# Altium schematic symbol library NewLibrary.SchLib: 79 symbols
Pins are listed as number, name and electrical type; pins without a type are passive.

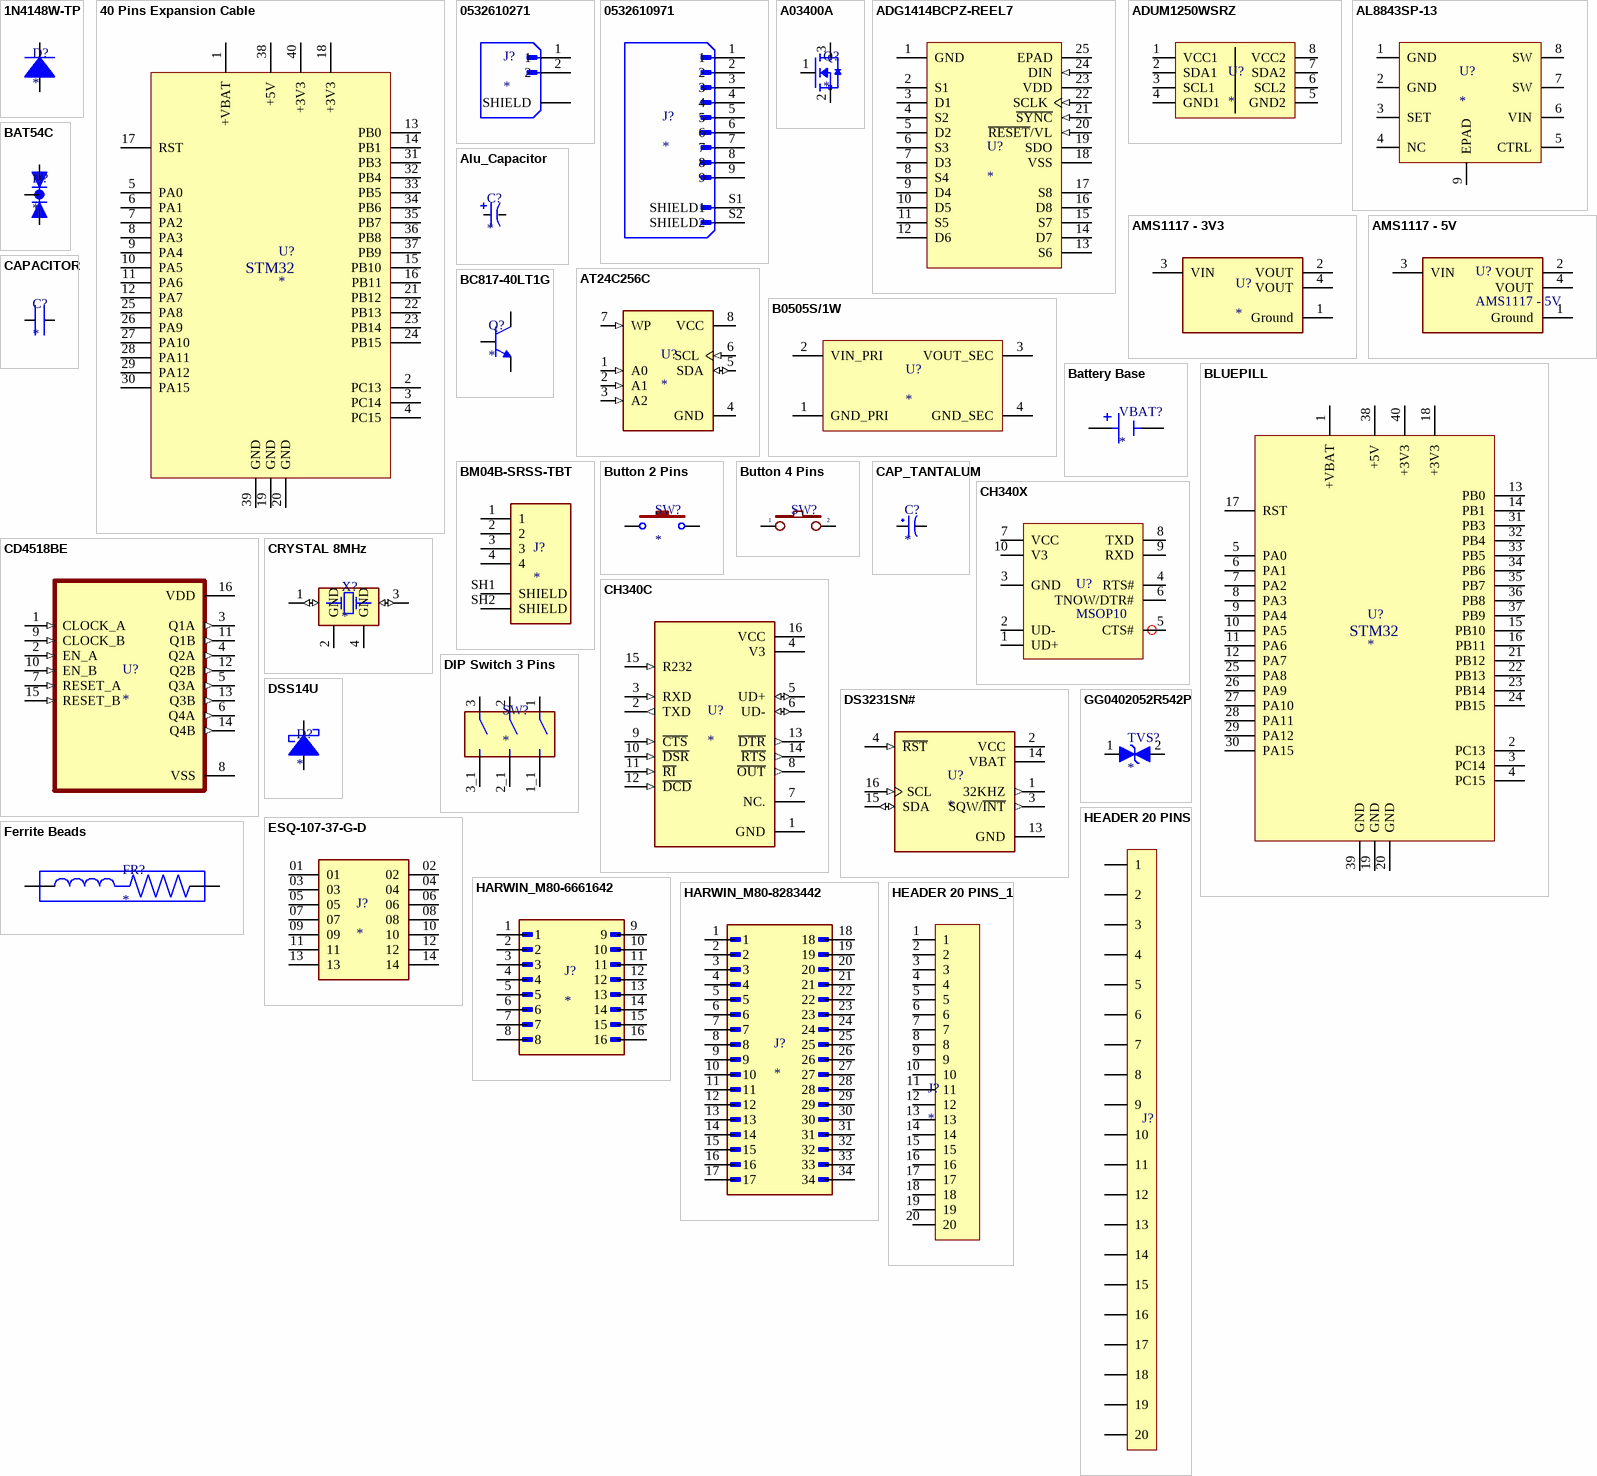
[diagram p0: symbols 1N4148W-TP to HEADER 20 PINS_1]

## 1N4148W-TP
designator D?
Diode 100 V 150mA Surface Mount SOD-123
footprint 1N4148W-TP (DIODE STANDARD 100V 150MA SOD123)
pins: 1 ANODE, 2 CATHODE

## 40 Pins Expansion Cable
designator U?
40 Pins Expansion Cable for Raspberry Pi
pins: 1 +VBAT, 2 PC13, 3 PC14, 4 PC15, 5 PA0, 6 PA1, 7 PA2, 8 PA3, 9 PA4, 10 PA5, 11 PA6, 12 PA7, 13 PB0, 14 PB1, 15 PB10, 16 PB11, 17 RST, 18 +3V3, 19 GND, 20 GND, 21 PB12, 22 PB13, 23 PB14, 24 PB15, 25 PA8, 26 PA9, 27 PA10, 28 PA11, 29 PA12, 30 PA15, 31 PB3, 32 PB4, 33 PB5, 34 PB6, 35 PB7, 36 PB8, 37 PB9, 38 +5V, 39 GND, 40 +3V3
text: STM32

## 0532610271
designator J?
CONN HEADER SMD R/A 2POS 1.25MM; Supplier 1: Arrow Electronics; Supplier Part Number 1: 53261-0271
footprint 0532610271 (CONN HEADER SMD R/A 2POS 1.25MM)
pins: 1, 2, S1 SHIELD, S2 SHIELD

## 0532610971
designator J?
Connector Header Surface Mount, Right Angle 9 position 0.049" (1.25mm); Supplier 1: Mouser; Supplier Part Number 1: 538-53261-0971
footprint 0532610971 (Connector Header Surface Mount, Right Angle 9 position 0.049" (1.25mm))
pins: 1, 2, 3, 4, 5, 6, 7, 8, 9, S1 SHIELD1, S2 SHIELD2

## A03400A
designator Q?
N-Channel 30 V 5.7A (Ta) 1.4W (Ta) Surface Mount SOT-23-3; Supplier 1: Arrow Electronics; Supplier Part Number 1: AO3400A
footprint AO3400A (N-Channel 30 V 5.7A (Ta) 1.4W (Ta) Surface Mount SOT-23-3)
pins: 1 G, 2 S, 3 D

## ADG1414BCPZ-REEL7
designator U?
8 Circuit IC Switch 1:1 11.5Ohm 24-LFCSP (4x4); Supplier 1: Mouser; Supplier Part Number 1: 584-ADG1414BCPZ-R7
footprint ADG1414BCPZ-REEL7
pins: 1 GND "Ground (0 V) Reference.", 2 S1 "Source Terminal 1. This pin can be an input or an output.", 3 D1 "Drain Terminal 1. This pin can be an input or an output.", 4 S2 "Source Terminal 1. This pin can be an input or an output.", 5 D2 "Drain Terminal 1. This pin can be an input or an output.", 6 S3 "Source Terminal 1. This pin can be an input or an output.", 7 D3 "Drain Terminal 1. This pin can be an input or an output.", 8 S4 "Source Terminal 1. This pin can be an input or an output.", 9 D4 "Drain Terminal 1. This pin can be an input or an output.", 10 D5 "Drain Terminal 1. This pin can be an input or an output.", 11 S5 "Source Terminal 1. This pin can be an input or an output.", 12 D6 "Drain Terminal 1. This pin can be an input or an output.", 13 S6 "Source Terminal 1. This pin can be an input or an output.", 14 D7 "Drain Terminal 1. This pin can be an input or an output.", 15 S7 "Source Terminal 1. This pin can be an input or an output.", 16 D8 "Drain Terminal 1. This pin can be an input or an output.", 17 S8 "Source Terminal 1. This pin can be an input or an output.", 18 VSS "Most Negative Power Supply Potential. In single-supply applications, it can be connected to ground.", 19 SDO (oc) "Serial Data Output. This pin can be used for daisy-chaining a number of these devices together or for reading back the data in the shift register for diagnostic purposes. The serial data is transferred on the rising edge of (See Datasheet)", 20 ~{RESET}/VL (in) "RESET/Logic Power Supply Input (VL). When this pin is low (<0.8 V), this pin acts as RESET, all switches are open, and appropriate registers are cleared to 0. Otherwise, it is the logic power supply input that operates from (See Datasheet)", 21 ~{SYNC} (in) "Active Low Control Input. This is the frame synchronization signal for the input data. When SYNC goes low, it powers on the SCLK and DIN buffers and enables the input shift register. Data is transferred in on the falling (See Datasheet)", 22 SCLK (in) "Serial Clock Input. Data is clocked into the input shift register on the falling edge of the serial clock input. Data can be transferred at rates of up to 50 MHz.", 23 VDD (power) "Most Positive Power Supply Potential.", 24 DIN (in) "Serial Data Input. This device has an 8-bit shift register. Data is clocked into the register on the falling edge of the serial clock input.", 25 EPAD "Exposed Pad. Exposed pad tied to the substrate, VSS."

## ADUM1250WSRZ
designator U?
I2C Digital Isolator 2500Vrms 2 Channel 1Mbps 25kV/µs CMTI 8-SOIC (0.154", 3.90mm Width); Supplier 1: Mouser; Supplier Part Number 1: 584-ADUM1250WSRZ
footprint ADUM1250WSRZ (I2C Digital Isolator 2500Vrms 2 Channel 1Mbps 25kV/µs CMTI 8-SOIC (0.154", 3.90mm Width))
pins: 1 VCC1, 2 SDA1, 3 SCL1, 4 GND1, 5 GND2, 6 SCL2, 7 SDA2, 8 VCC2

## AL8843SP-13
designator U?
LED Driver IC 1 Output DC DC Regulator Step-Down (Buck) Analog, PWM Dimming 3A 8-SO-EP; Supplier 1: Avnet; Supplier Part Number 1: AL8843SP-13
footprint AL8843SP-13 (IC LED DRIVER RGLTR PWM 3A 8SO)
pins: 1 GND, 2 GND, 3 SET, 4 NC, 5 CTRL, 6 VIN, 7 SW, 8 SW, 9 EPAD

## Alu_Capacitor
designator C?
footprint Alu_Cap_6.3_7.7 (6.3x7.7mm)
pins: 1, 2

## AMS1117 - 3V3
designator U?
Max input voltage 15V, output voltage 3.3V-1A, SMD package SOT-223
footprint FP-AMS1117-IPC_A
pins: 1 Ground (power), 2 VOUT, 3 VIN (power), 4 VOUT

## AMS1117 - 5V
designator U?
Max input voltage 15V, output voltag 5V-1A, SMD package SOT-223
footprint FP-AMS1117-IPC_A
pins: 1 Ground (power), 2 VOUT, 3 VIN (power), 4 VOUT

## AT24C256C
designator U?
EEPROM Memory IC 256Kb (32K x 8), I2C Protocol
footprint SOIC-8 (SMD)
pins: 1 A0 (in), 2 A1 (in), 3 A2 (in), 4 GND (power), 5 SDA (io), 6 SCL (in), 7 WP (in), 8 VCC (power)

## B0505S/1W
designator U?
Isolated - Converter
footprint B0505S/1W
pins: 1 GND_PRI, 2 VIN_PRI, 3 VOUT_SEC, 4 GND_SEC

## BAT54C
designator D?
230mW SMD Schottky Barrier Diode; Supplier 1: Avnet; Supplier Part Number 1: BAT54C
footprint BAT54C (Schottky Barrier Diode)
pins: 1 A1, 2 A2, 3 C

## Battery Base
designator VBAT?
Battery Base CR2032
footprint CR2032 - SMD
pins: N NEG, P POS

## BC817-40LT1G
designator Q?
Bipolar (BJT) Transistor NPN 45 V 500 mA 100MHz 300 mW Surface Mount SOT-23-3 (TO-236); Supplier 1: Arrow Electronics; Supplier Part Number 1: BC817-40LT1G
footprint BC817-40LT1GBC817-40LT1G (Bipolar (BJT) Transistor NPN 45 V 500 mA 100MHz 300 mW Surface Mount SOT-23-3 (TO-236) / Datasheet / Datasheet)
pins: 1 B, 2 E, 3 C

## BLUEPILL
designator U?
STM32F103C8T6
footprint BLUEPILL
pins: 1 +VBAT, 2 PC13, 3 PC14, 4 PC15, 5 PA0, 6 PA1, 7 PA2, 8 PA3, 9 PA4, 10 PA5, 11 PA6, 12 PA7, 13 PB0, 14 PB1, 15 PB10, 16 PB11, 17 RST, 18 +3V3, 19 GND, 20 GND, 21 PB12, 22 PB13, 23 PB14, 24 PB15, 25 PA8, 26 PA9, 27 PA10, 28 PA11, 29 PA12, 30 PA15, 31 PB3, 32 PB4, 33 PB5, 34 PB6, 35 PB7, 36 PB8, 37 PB9, 38 +5V, 39 GND, 40 +3V3
text: STM32

## BM04B-SRSS-TBT
designator J?
Connector Header Surface Mount 4 position 0.039" (1.00mm); Supplier 1: Arrow Electronics; Supplier Part Number 1: BM04B-SRSS-TBT(LF)(SN)
footprint BM04B-SRSS-TBT(LF)(SN)
pins: 1, 2, 3, 4, SH1 SHIELD, SH2 SHIELD

## Button 2 Pins
designator SW?
SMD Button; Supplier 1: Newark; Supplier Part Number 1: 35AH5160
footprint SMD SWITCH 2 PINS (SMD)
footprint SMD - 12x12mm - Height 9.5mm (SMD)
pins: 1, 2

## Button 4 Pins
designator SW?
DIP Button 4 Pins
footprint SW - 12mm x 12mm x 8mm (Black Switch)
pins: 1, 2

## CAP_TANTALUM
designator C?
TANTALUM SMD
footprint CAP_TANTALUM_1206
pins: 1, 2

## CAPACITOR
designator C?
CAPACITOR SMD - KEMET
footprint CAP - 0603 (Capacitor SMD - 1608 - KEMET)
footprint CAP - 0805 (Capacitor SMD - 2012 - KEMET)
footprint CAP - 1206 (Capacitor SMD - 3216 - KEMET)
footprint CAP - 1210 (Capacitor SMD - 3225 - KEMET)
pins: 1, 2

## CD4518BE
designator U?
CMOS Dual BCD Up-Counter; MF: Texas Instruments; MP: CD4518BE; SnapEDA_Link: https://www.snapeda.com/parts/CD4518BE/Texas+Instruments/view-part/?ref=snap; Package: PDIP-16 Texas Instruments; Value: *; Check_prices: https://www.snapeda.com/parts/CD4518BE/Texas+Instruments/view-part/?ref=eda
footprint DIP794W45P254L1969H508Q16
pins: 1 CLOCK_A (in), 2 EN_A (in), 3 Q1A (out), 4 Q2A (out), 5 Q3A (out), 6 Q4A (out), 7 RESET_A (in), 8 VSS (power), 9 CLOCK_B (in), 10 EN_B (in), 11 Q1B (out), 12 Q2B (out), 13 Q3B (out), 14 Q4B (out), 15 RESET_B (in), 16 VDD (power)

## CH340C
designator U?
USB to serial chip CH340
footprint SOIC127P600X180-16N
pins: 1 GND (power), 2 TXD (out), 3 RXD (in), 4 V3 (power), 5 UD+ (io), 6 UD- (io), 7 NC., 8 ~{OUT} (out), 9 ~{CTS} (in), 10 ~{DSR} (in), 11 ~{RI} (in), 12 ~{DCD} (in), 13 ~{DTR} (out), 14 ~{RTS} (out), 15 R232 (in), 16 VCC (power)

## CH340X
designator U?, comment MSOP10
CH340X - MSOP10
footprint CH340X (5.1x3.1mm, Package MSOP10)
pins: 1 UD+, 2 UD-, 3 GND, 4 RTS#, 5 CTS#, 6 TNOW/DTR#, 7 VCC, 8 TXD, 9 RXD, 10 V3

## CRYSTAL 8MHz
designator X?
SMD CRYSTAL; Supplier 1: Avnet; Supplier Part Number 1: ECS-80-8-33Q-ADS
footprint CRYSTAL 8MHz (SMD)
pins: 1 IN/OUT (io), 2 GND (power), 3 OUT/IN (io), 4 GND (power)

## DIP Switch 3 Pins
designator SW?
Switch DIP ON OFF SPST 3 Flush Slide 0.1A 20VDC Gull Wing 2000Cycles 2.54mm SMD T/R
footprint SMD - SW - 3Pins (Pitch - 2.54mm)
pins: 1, 1_1, 2, 2_1, 3, 3_1

## DS3231SN#
designator U?
Extremely Accurate I²C-Integrated RTC/TCXO/Crystal
footprint SOIC -16 (SMD)
pins: 1 32KHZ (out), 2 VCC (power), 3 SQW/~{INT} (out), 4 ~{RST} (in), 13 GND (power), 14 VBAT (power), 15 SDA (io), 16 SCL (in)

## DSS14U
designator D?
LED Driver IC 1 Output DC DC Regulator Step-Down (Buck) Analog, PWM Dimming 3A 8-SO-EP; Supplier 1: Digikey; Supplier Part Number 1: 1655-DSS14UCT-ND
footprint DSS14U (Diode Schottky 40 V 1A Surface Mount SOD-123FL)
pins: 1 ANODE, 2 CATHODE

## ESQ-107-37-G-D
designator J?
CONN SOCKET 14POS 0.1 GOLD PCB; Supplier 1: Avnet; Supplier Part Number 1: ESQ-107-37-G-D
footprint ESQ-107-37-G-D (CONN SOCKET 14POS 0.1 GOLD PCB)
pins: 01, 02, 03, 04, 05, 06, 07, 08, 09, 10, 11, 12, 13, 14

## Ferrite Beads
designator FR?
SMD
footprint FR-0805 (SMD)
pins: 1, 2

## GG0402052R542P
designator TVS?
TVS DIODE 5VWM 15.5VC 0402; Supplier 1: Digikey; Supplier Part Number 1: 478-10592-1-ND
footprint GG0402052R542P (TVS DIODE 5VWM 15.5VC 0402)
pins: 1 IO_1, 2 IO_2

## HARWIN_M80-6661642
designator J?
Connector Header Surface Mount, Right Angle 16 position 0.079" (2.00mm); Supplier 1: Mouser; Supplier Part Number 1: 855-M80-6661642
footprint M80-6661642 (Connector Header Surface Mount, Right Angle 16 position 0.079" (2.00mm))
pins: 1, 2, 3, 4, 5, 6, 7, 8, 9, 10, 11, 12, 13, 14, 15, 16

## HARWIN_M80-8283442
designator J?
Connector 34 Pins; Supplier 1: Mouser; Supplier Part Number 1: 855-M80-8283442
footprint HARWIN_M80-8283442 (Connector 34 Pins)
pins: 1, 2, 3, 4, 5, 6, 7, 8, 9, 10, 11, 12, 13, 14, 15, 16, 17, 18, 19, 20, 21, 22, 23, 24, 25, 26, 27, 28, 29, 30, 31, 32, 33, 34

## HEADER 20 PINS
designator J?  (value not drawn)
Male Header 20 Pins
footprint MALE HEADER 20 PINS
pins: 1, 2, 3, 4, 5, 6, 7, 8, 9, 10, 11, 12, 13, 14, 15, 16, 17, 18, 19, 20

## HEADER 20 PINS_1
designator J?
Connector Header Through Hole 20 position 0.200" (5.08mm)
footprint MALE HEADER 20 PINS
pins: 1, 2, 3, 4, 5, 6, 7, 8, 9, 10, 11, 12, 13, 14, 15, 16, 17, 18, 19, 20

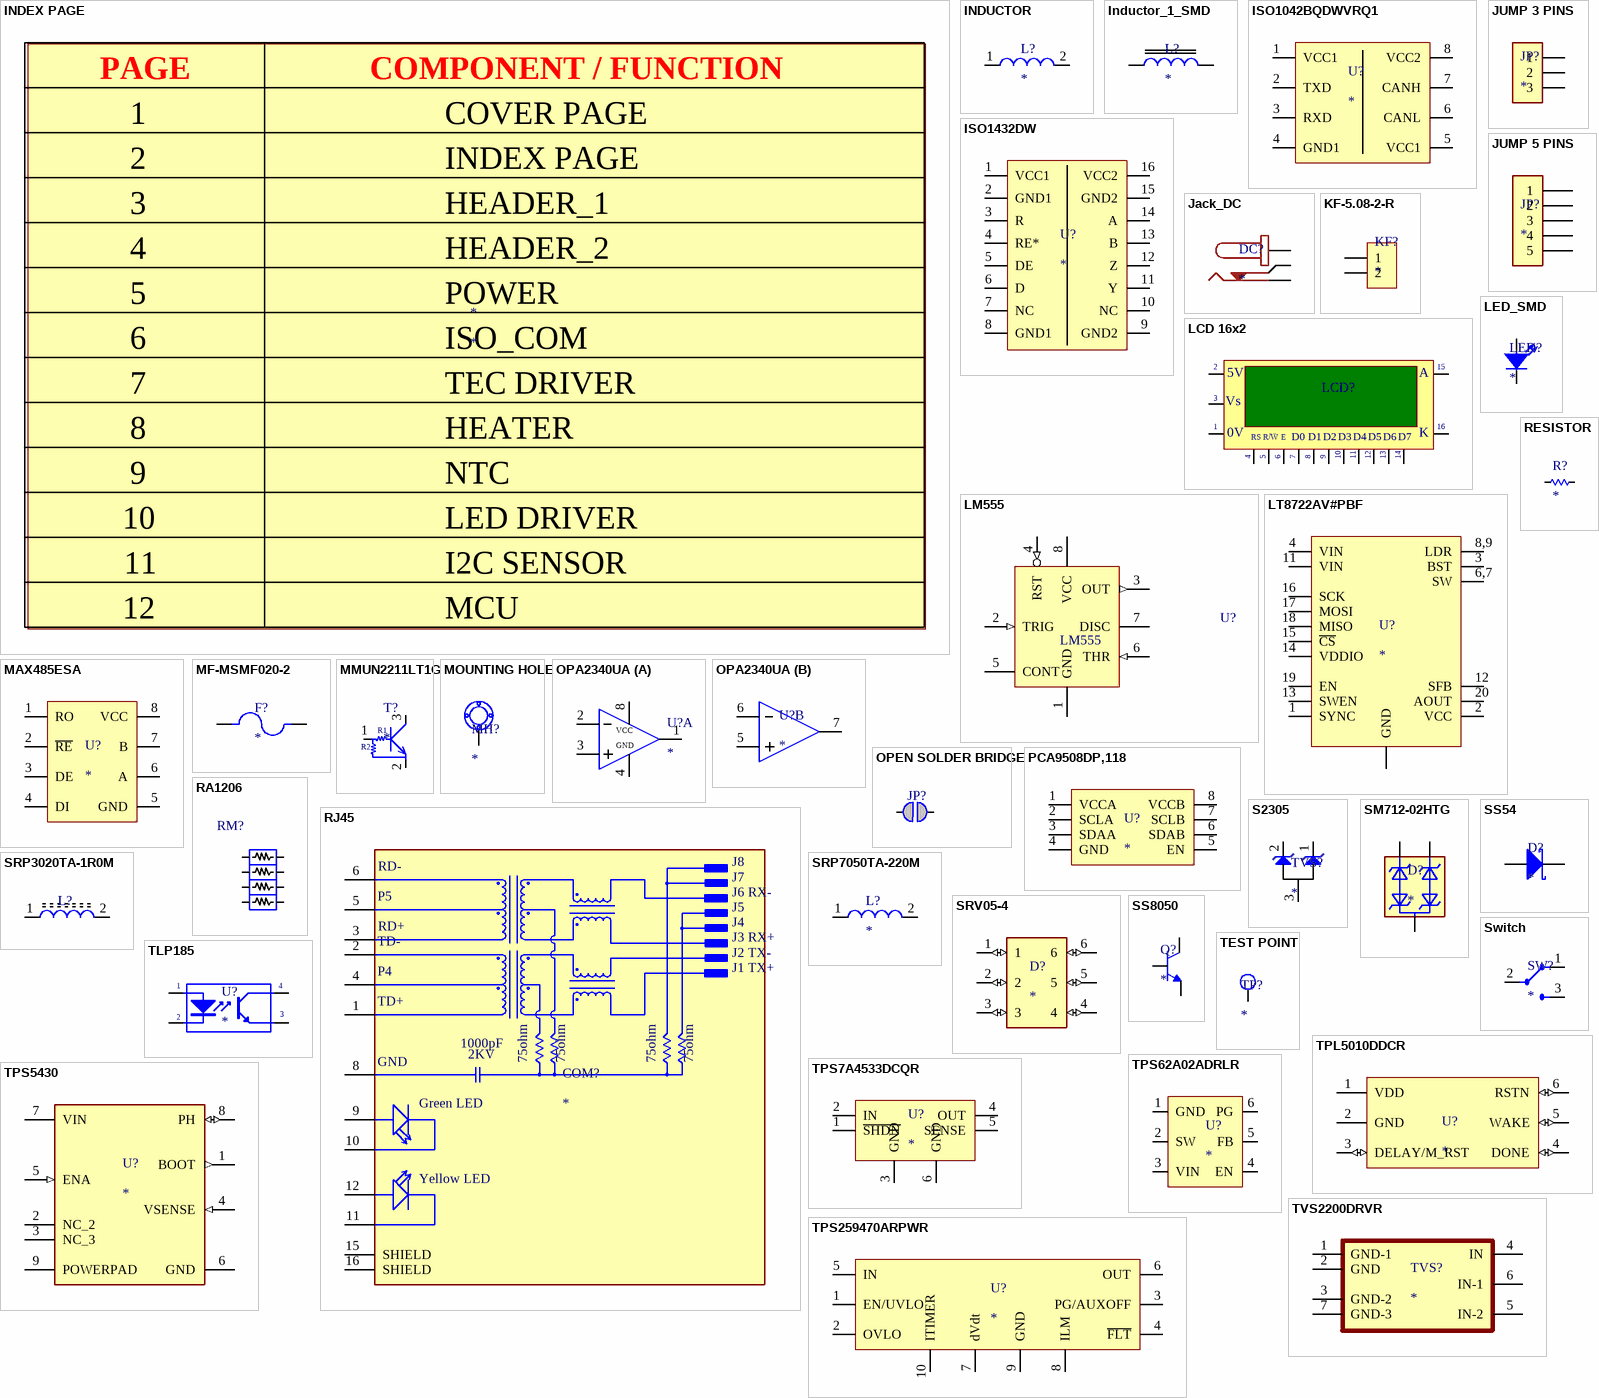
[diagram p1: symbols INDEX PAGE to TVS2200DRVR]

## INDEX PAGE
designator *
INDEX EXP_BOARD
text: PAGE; COMPONENT / FUNCTION; 1; COVER PAGE; 2; 3; HEADER_1; 4; HEADER_2; 5; POWER; 6; ISO_COM; 7; TEC DRIVER; 8; HEATER; 9; NTC; 10; LED DRIVER; 11; I2C SENSOR; 12; MCU

## INDUCTOR
designator L?
INDUCTOR SMD - KEMET
footprint IND - 0603 (Inductor SMD - 1608 - KEMET)
footprint IND - 0805 (Inductor SMD - 2012 - KEMET)
footprint IND - 0806 (Inductor SMD - 2016 - KEMET)
footprint IND - 1210 (Inductor SMD - 3225 - KEMET)
footprint IND - 1206 (Inductor SMD - 3216 - KEMET)
footprint IND - 1806 (Inductor SMD - 4516 - KEMET)
footprint IND - 1810 (Inductor SMD - 4525 - KEMET)
footprint IND - 1812 (Inductor SMD - 4532 - KEMET)
footprint SWPA3015S1R0MT (Precision Wire Wound Inductor, 2-Leads, 1.0uH/2.5A/DCR=30mR/20%/Body 3.00x3.00x1.5mm, IPC Medium Density)
pins: 1 4, 2 5

## Inductor_1_SMD
designator L?
footprint L_SMD_12x12mm
pins: 1 4, 2 5

## ISO1042BQDWVRQ1
designator U?
1/1 Transceiver, Isolated Full CANbus 8-SOIC; Supplier 1: Mouser; Supplier Part Number 1: 595-ISO1042BQDWVRQ1
footprint ISO1042BQDWVRQ1 (1/1 Transceiver, Isolated Full CANbus 8-SOIC)
pins: 1 VCC1, 2 TXD, 3 RXD, 4 GND1, 5 VCC1, 6 CANL, 7 CANH, 8 VCC2

## ISO1432DW
designator U?
1/1 Transceiver, Isolated Full RS422, RS485 16-SOIC; Supplier 1: Mouser; Supplier Part Number 1: 595-ISO1432DW
footprint ISO1432DW (1/1 Transceiver, Isolated Full RS422, RS485 16-SOIC)
pins: 1 VCC1, 2 GND1, 3 R, 4 RE*, 5 DE, 6 D, 7 NC, 8 GND1, 9 GND2, 10 NC, 11 Y, 12 Z, 13 B, 14 A, 15 GND2, 16 VCC2

## Jack_DC
designator DC?
Jack DC IN (Hole)
footprint DC_5.5 x 2.1mm
pins: 1 S (power) "Sleeve (Ground)", 2 TN "Tip Normal (Break Contact)", 3 T "Tip"

## JUMP 3 PINS
designator JP?
JUMP 3 PINS DIP; Supplier 1: Avnet; Supplier Part Number 1: TS-103-G-A
footprint JUMP 3 PINS (JUMP DIP)
pins: 01 1, 02 2, 03 3

## JUMP 5 PINS
designator JP?
JUMP 5 PINS DIP; Supplier 1: Avnet; Supplier Part Number 1: TSW-105-23-L-S-LL
footprint JUMP 5 PINS (JUMP 5 PINS DIP)
pins: 01 1, 02 2, 03 3, 04 4, 05 5

## KF-5.08-2-R
designator KF?
KF-5.08-2-R Terminal Block Plug-in
footprint KF-5.08-2-R
pins: 1, 2

## LCD 16x2
designator LCD?  (value not drawn)
LCD 16x2A
footprint LCD 16x2 (LCD 16x2 16 Pins)
pins: 1 GND, 2 VDD, 3 VEE, 4 RS, 5 R/~{W}, 6 ~{EN}, 7 D0, 8 D1, 9 D2, 10 D3, 11 D4, 12 D5, 13 D6, 14 D7, 15 A, 16 K
text: 5V; Vs; |; 0V; R/W; E

## LED_SMD
designator LED?
LED SMD
footprint RED_LED_0603 (SMD)
footprint YELLOW_LED_0603 (SMD)
footprint BLUE_LED_0603 (SMD)
footprint GREEN_LED_0603 (SMD)
footprint RED_LED_0805 (SMD)
footprint BLUE_LED_0805 (SMD)
footprint GREEN_LED_0805 (SMD)
footprint YELLOW_LED_0805 (SMD)
pins: 1, 2

## LM555
designator U?
DIP8; Don_Vi: Con; Ma_Hang: MH001514; Chung_Loai: Dán; Ten_Linh_Kien: LM555; Ghi _Chu: *; Kieu_Chan: *
footprint DIP8 (W.300/L.400)
pins: 1 GND (power), 2 TRIG (in), 3 OUT (out), 4 RST (in), 5 CONT, 6 THR (in), 7 DISC (oc), 8 VCC (power)

## LT8722AV#PBF
designator U?
Full-Bridge Gate Driver IC Non-Inverting 18-QFN (3x3); Supplier 1: Newark; Supplier Part Number 1: 16AM6685
footprint LT8722AV#PBF
pins: 1 SYNC, 2 VCC, 3 BST, 4 VIN, 5,10,21,22 GND, 6,7 SW, 8,9 LDR, 11 VIN, 12 SFB, 13 SWEN, 14 VDDIO, 15 ~{CS}, 16 SCK, 17 MOSI, 18 MISO, 19 EN, 20 AOUT

## MAX485ESA
designator U?
1/1 Transceiver Half RS422, RS485
footprint SOP_8
pins: 1 RO "Receiver Output", 2 ~{RE} "Receiver Enable Output", 3 DE "Driver Enable Output", 4 DI "Driver Input", 5 GND, 6 A "RI & NoneDO", 7 B "NoneDI", 8 VCC

## MF-MSMF020-2
designator F?
Fuse Resettable 30V/0.2A; Size 4.55 x 3.24mm
footprint Fuse 4.55x3.24 mm
pins: 1, 2

## MMUN2211LT1G
designator T?
R1 = 10k, R2 = 10K, SOT−23 (TO−236) 2.90x1.30x1.00 1.90P,; Supplier 1: Digikey; Supplier Part Number 1: MMUN2211LT1GOSCT-ND
footprint MMUN2211LT1G (SOT−23 (TO−236) 2.90x1.30x1.00 1.90P)
pins: 1  B (Base) - INPUT, 2 E (Emitter) - GROUND, 3 C (Collector) - OUTPUT
text: R1; R2

## MOUNTING HOLE
designator MH?
Mounting hole
footprint Mounting hole
footprint Mounting hole_2
pins: 1 76

## OPA2340UA
designator U?
Dual single-supply, rail-to-rail, low power operational amplifier; Supplier 1: Mouser; Supplier Part Number 1: 595-OPA2340UA
footprint OPA2340UA (Dual single-supply, rail-to-rail, low power operational amplifier)
part A pins: 1 OUT, 2 +, 3 -, 4 GND, 8 VCC
part B pins: 5 +, 6 -, 7 OUT

## OPEN SOLDER BRIDGE
designator JP?  (value not drawn)
A solder bridge jumper to make a board configurable.
footprint SOLDER BRIDGE (OPEN) (A solder bridge jumper.)
pins: 1 0, 2 1

## PCA9508DP,118
designator U?
Buffer, ReDriver 1 Channel 400kHz 8-TSSOP; Supplier 1: Newark; Supplier Part Number 1: 31AC6773
footprint PCA9508DP,118 (Buffer, ReDriver 1 Channel 400kHz 8-TSSOP)
pins: 1 VCCA, 2 SCLA, 3 SDAA, 4 GND, 5 EN, 6 SDAB, 7 SCLB, 8 VCCB

## RA1206
designator RM?  (value not drawn)
R_MATRIX_4_(4X0603)_4B8_2.2k, 3.2x0.3mm, Chip Resistor Array. Link store: https://store.comet.srl.ro/en/Catalogue/Product/5669/
footprint RA1206 (4X0603) 4B8 2.2K (SON, 8-Leads, Body 3.20x1.60mm, Pitch 0.90mm, Thermal Pad 3.20x0.00mm, IPC Medium Density)
pins: 1 R1 - Pin 1, 2 R2 - Pin 1, 3 R3 - Pin 1, 4 R4 - Pin 1, 5 R4 - Pin 2, 6 R3 - Pin 2, 7 R2 - Pin 2, 8 R1 - Pin 2

## RESISTOR
designator R?
Resistor SMD - YAGEO
footprint RES - 2512 (Resistor SMD - 6.35x3.2mm - YAGEO)
footprint RES - 0201 (Resistor SMD - 0.6x0.3mm - YAGEO)
footprint RES - 0402 (Resistor SMD - 1.0x0.5mm - YAGEO)
footprint RES - 0603 (Resistor SMD - 1.6x0.8mm - YAGEO)
footprint RES - 0805 (Resistor SMD - 2.0x1.25mm -YAGEO)
footprint RES - 1210 (Resistor SMD - 3.1x2.6mm - YAGEO)
footprint RES - 2010 (Resistor SMD - 5.0x2.5mm -  YAGEO)
footprint RES - 1206 (Resistor SMD - 3.1x1.6mm - YAGEO)
pins: 1, 2

## RJ45
designator COM?
HR911105A
footprint RJ45
pins: 1 TD+, 2 TD-, 3 RD+, 4 P4, 5 P5, 6 RD-, 8 GND (power), 9 GA, 10 GC, 11 YC, 12 YA, 15 SHIELD, 16 SHIELD
text: J8; J7; J6 RX-; J5; J4; J3 RX+; J2 TX-; J1 TX+; 1000pF; 2KV; 75ohm; Green LED; Yellow LED

## S2305
designator TVS?
10.8V Clamp 1A Ipp Tvs Diode Surface Mount SOT-23-3; Supplier 1: Digikey; Supplier Part Number 1: 1655-1900-1-ND
footprint S2305 (10.8V Clamp 1A Ipp Tvs Diode Surface Mount SOT-23-3)
pins: 1, 2, 3

## SM712-02HTG
designator D?
TVS Diode, SM712 Series, 31V Clamp, 600W Peak Pulse, Surface Mount, SOT23-3 | Littelfuse SM712-02HTG
footprint SOT23-3
pins: 1, 2, 3

## SRP3020TA-1R0M
designator L?  (value not drawn)
1 µH Shielded Drum Core, Wirewound Inductor 4 A 38mOhm Max 2-SMD; Supplier 1: Mouser; Supplier Part Number 1: 652-SRP3020TA-1R0M
footprint SRP3020TA-1R0M (FIXED IND 1UH 4A 38 MOHM SMD)
pins: 1 4, 2 5

## SRP7050TA-220M
designator L?
22 µH Shielded Drum Core, Wirewound Inductor 2.5 A 170mOhm Max Nonstandard; Supplier 1: Arrow Electronics; Supplier Part Number 1: SRP7050TA-220M
footprint SRP7050TA-220M (FIXED IND 22UH 2.5A 170 MOHM SMD)
pins: 1 4, 2 5

## SRV05-4
designator D?
17.5V Clamp 12A (8/20µs) Ipp Tvs Diode Surface Mount SOT-23-6
footprint SOT-23-6 (SMD)
pins: 1 (io), 2 (io), 3 (io), 4 (io), 5 (io), 6 (io)

## SS54
designator D?
DIODE SCHOTTKY 40V 5A SMA; Supplier 1: Newark; Supplier Part Number 1: 08X3002
footprint SS54 (DIODE SCHOTTKY 40V 5A SMA)
pins: 1 A, 2 K

## SS8050
designator Q?
Bipolar (BJT) Transistor NPN 25 V 1.5 A 100MHz 300 mW Surface Mount SOT-23-3
footprint SOT23-3
pins: 1 B, 2 E, 3 C

## Switch
designator SW?
Switch 3 Pins
footprint Dip_Switch_3_pins_0
pins: 1, 2, 3 I/O2

## TEST POINT
designator TP?
Test Point; Supplier Part Number 1: 36-5014-ND; Supplier 1: Digikey
footprint Test Point
pins: 1

## TLP185
designator U?
TLP185 Optoisolator Transistor Output 3750Vrms 1 Channel 4-SOP
footprint SOP-4
pins: 1 A "Anode", 2 K "Cathode", 3 E "Emitter", 4 C "Collector"

## TPL5010DDCR
designator U?
Programmable Timer IC SOT-23-THIN; Supplier 1: Mouser; Supplier Part Number 1: 595-TPL5010DDCR
footprint TPL5010DDCR (IC OSC PROG TIMER TSOT23-6)
pins: 1 VDD (power), 2 GND, 3 DELAY/M_RST (io), 4 DONE (io), 5 WAKE (io), 6 RSTN (io)

## TPS7A4533DCQR
designator U?
IC REG LIN 3.3V 1.5A SOT-223-6; Supplier 1: Mouser; Supplier Part Number 1: 595-TPS7A4533DCQR
footprint TPS7A4533DCQR (IC REG LIN 3.3V 1.5A SOT-223-6)
pins: 1 ~{SHDN}, 2 IN, 3 GND (power), 4 OUT, 5 SENSE, 6 GND

## TPS62A02ADRLR
designator U?
TPS62A0xA 2A, High-Efficiency, Synchronous Buck / Converters in  a SOT-23 Package
footprint TPS62A02ADRLR (SOTFL, 6-Leads, Body 1.60x1.60mm, Pitch 0.50mm, IPC Medium Density)
pins: 1 GND, 2 SW, 3 VIN, 4 EN, 5 FB, 6 PG

## TPS5430
designator U?
Buck DC to DC Converter
footprint TPS5430
pins: 1 BOOT (out), 2 NC_2, 3 NC_3, 4 VSENSE (in), 5 ENA (in), 6 GND, 7 VIN (power), 8 PH (io), 9 POWERPAD

## TPS259470ARPWR
designator U?
IC ELECTRONIC FUSE 10VQFN; Supplier 1: Mouser; Supplier Part Number 1: 595-TPS259470ARPWR
footprint TPS259470ARPWR
pins: 1 EN/UVLO, 2 OVLO, 3 PG/AUXOFF, 4 ~{FLT}, 5 IN, 6 OUT, 7 dVdt, 8 ILM, 9 GND, 10 ITIMER

## TVS2200DRVR
designator TVS?
UNIDIR PRECISION SURGE DIODE; Supplier 1: Mouser; Supplier Part Number 1: 595-TVS2200DRVR
footprint TVS2200DRVR (UNIDIR PRECISION SURGE DIODE)
pins: 1 GND-1, 2 GND, 3 GND-2, 4 IN, 5 IN-2, 6 IN-1, 7 GND-3

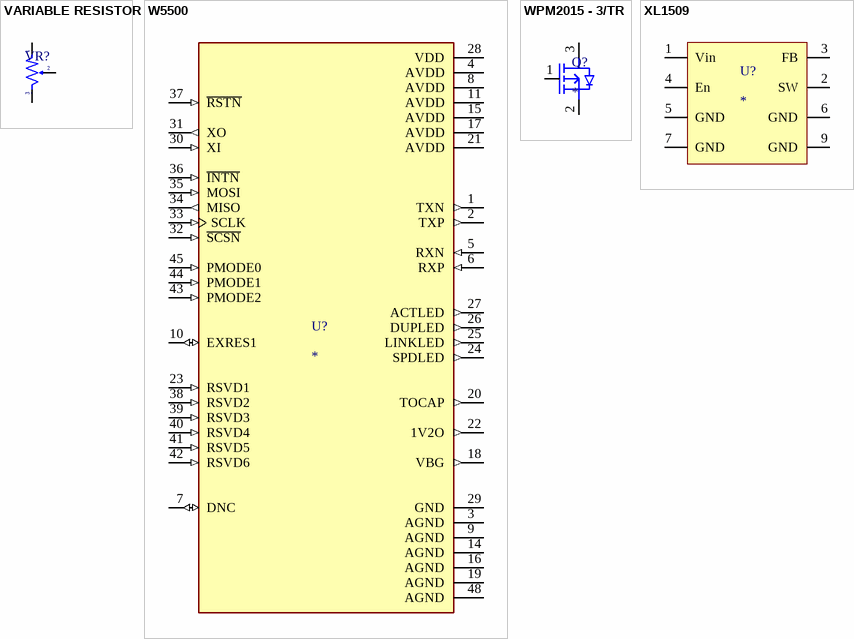
[diagram p2: symbols VARIABLE RESISTOR to XL1509]

## VARIABLE RESISTOR
designator VR?  (value not drawn)
VR
footprint Variable Resistor (RM065)
footprint VR 3x3
pins: 1, 2, 3

## W5500
designator U?
Hardwired TCP/IP embedded Ethernet controller
footprint LQFP-48
pins: 1 TXN (out), 2 TXP (out), 3 AGND (power), 4 AVDD (power), 5 RXN (in), 6 RXP (in), 7 DNC (io), 8 AVDD (power), 9 AGND (power), 10 EXRES1 (io), 11 AVDD (power), 14 AGND (power), 15 AVDD (power), 16 AGND (power), 17 AVDD (power), 18 VBG (out), 19 AGND (power), 20 TOCAP (out), 21 AVDD (power), 22 1V2O (out), 23 RSVD1 (in), 24 SPDLED (out), 25 LINKLED (out), 26 DUPLED (out), 27 ACTLED (out), 28 VDD (power), 29 GND, 30 XI (in), 31 XO (out), 32 ~{SCSN} (in), 33 SCLK (in), 34 MISO (out), 35 MOSI (in), 36 ~{INTN} (in), 37 ~{RSTN} (in), 38 RSVD2 (in), 39 RSVD3 (in), 40 RSVD4 (in), 41 RSVD5 (in), 42 RSVD6 (in), 43 PMODE2 (in), 44 PMODE1 (in), 45 PMODE0 (in), 48 AGND (power)

## WPM2015 - 3/TR
designator Q?
Single P-Channel, -20V, -2.4A, Power MOSFET
footprint WPM2015 - 3/TR (Single P-Channel, -20V, -2.4A, Power MOSFET)
pins: 1 G, 2 S, 3 D

## XL1509
designator U?
Buck Converter
footprint SOP_8
pins: 1 Vin, 2 SW, 3 FB, 4 En, 5 GND, 6 GND, 7 GND, 9 GND